# Altium footprint library SON65P300X300X60-9N.PcbLib: 1 footprints
Each footprint in its own frame and in the unit in brackets; x right, y up, seen from the top. Pads: shape width x height; smd on the part's side, far side on the other; paste and mask are expansions set on the pad; w line width, h text height; cw(c..) or ccw(c..) is an arc to the next point about the centre after c.
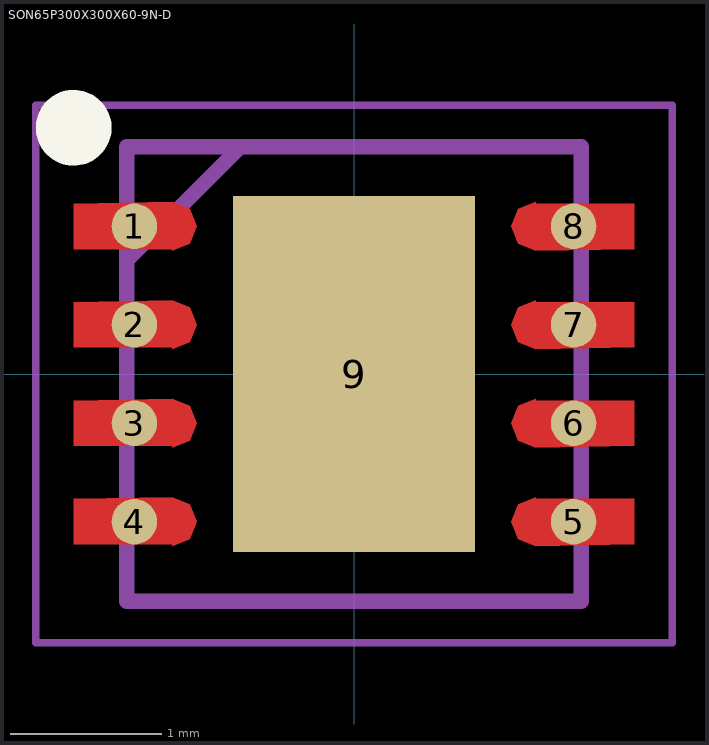
[diagram p0: the footprint, top view; thin cyan lines are the x and y axes]

## SON65P300X300X60-9N-D [mm]
pads (9):
  round 0.3 smd: 1(-1.45,0.975) 2(-1.45,0.325) 3(-1.45,-0.325) 4(-1.45,-0.975) 5(1.45,-0.975) 6(1.45,-0.325) 7(1.45,0.325) 8(1.45,0.975)
  rect 1.6x2.35 smd: 9(0,0)
L0 (Multiple PADS layers...):
  region: -1.85,1.125 -1.2,1.137 -1.085,1.09 -1.038,0.975 -1.085,0.86 -1.2,0.813 -1.2,0.825 -1.85,0.825
  region: -1.85,0.475 -1.2,0.487 -1.085,0.44 -1.038,0.325 -1.085,0.21 -1.2,0.163 -1.2,0.175 -1.85,0.175
  region: -1.85,-0.175 -1.2,-0.163 -1.085,-0.21 -1.038,-0.325 -1.085,-0.44 -1.2,-0.487 -1.2,-0.475 -1.85,-0.475
  region: -1.85,-0.825 -1.2,-0.813 -1.085,-0.86 -1.038,-0.975 -1.085,-1.09 -1.2,-1.137 -1.2,-1.125 -1.85,-1.125
  region: 1.85,-1.125 1.2,-1.137 1.085,-1.09 1.038,-0.975 1.085,-0.86 1.2,-0.813 1.2,-0.825 1.85,-0.825
  region: 1.85,-0.475 1.2,-0.487 1.085,-0.44 1.038,-0.325 1.085,-0.21 1.2,-0.163 1.2,-0.175 1.85,-0.175
  region: 1.85,0.175 1.2,0.163 1.085,0.21 1.038,0.325 1.085,0.44 1.2,0.487 1.2,0.475 1.85,0.475
  region: 1.85,0.825 1.2,0.813 1.085,0.86 1.038,0.975 1.085,1.09 1.2,1.137 1.2,1.125 1.85,1.125
L26-Silk Screen Top (Multiple PADS layers...):
  circle w0.25: c-1.85,1.625 r0.125
L15 (Multiple PADS layers...):
  lines w0.1: -1.5,0.75 -0.75,1.5 ; -1.5,-1.5 1.5,-1.5 1.5,1.5 -1.5,1.5 -1.5,-1.5
L20:
  lines w0.05: -2.1,-1.775 2.1,-1.775 2.1,1.775 -2.1,1.775 -2.1,-1.775